# EAGLE library part ISD1600B (library Oles komponentbibliotek)
Single-message, single chip, record/playback solution with selectable durations from 6.6 to 40 seconds.
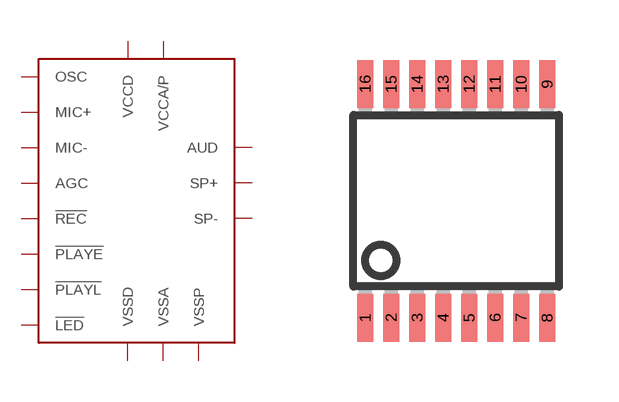
[diagram p48: symbol with the pads of SSOP16; footprint SSOP16]

Designator prefix -

## ISD1600B  [SSOP16]
1  VSSD  out
2  !REC  in
3  !PLAYE  in
4  !PLAYL  in
5  VSSA  pwr
6  MIC+  in
7  MIC-  in
8  SP-  pwr
9  VSSP  pwr
10  VCCA/P  out
11  SP+  pwr
12  AGC  in
13  AUD  pwr
14  OSC  pas
15  VCCD  out
16  !LED  out

## Footprint SSOP16 (pad centres in mm)
Small Shrink Outline Package
smd 0.4 x 1.2: 1 -2.275,-2.925; 2 -1.625,-2.925; 3 -0.975,-2.925; 4 -0.325,-2.925; 5 0.325,-2.925; 6 0.975,-2.925; 7 1.625,-2.925; 8 2.275,-2.925; 9 2.275,2.925; 10 1.625,2.925; 11 0.975,2.925; 12 0.325,2.925; 13 -0.325,2.925; 14 -0.975,2.925; 15 -1.625,2.925; 16 -2.275,2.925